# EAGLE library part MCP41HVX1_BREAKOUT_OLD (library Clock components)
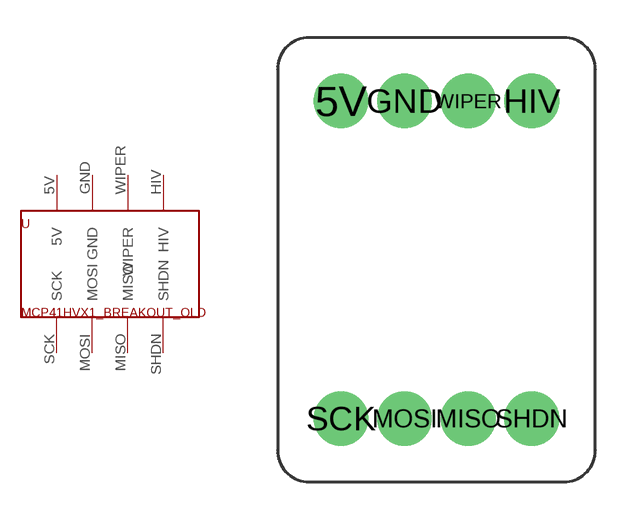
[diagram p6: symbol with the pads of MCP41HVX1_BREAKOUT_OLD; footprint MCP41HVX1_BREAKOUT_OLD]

Designator prefix -

## MCP41HVX1_BREAKOUT_OLD  [MCP41HVX1_BREAKOUT_OLD]
5V  5V
GND  GND
HIV  HIV
MISO  MISO
MOSI  MOSI
SCK  SCK
SHDN  SHDN
WIPER  WIPER

## Footprint MCP41HVX1_BREAKOUT_OLD (pad centres in mm)
drill 1 pad 2.184: 5V 2.54,15.24; GND 5.08,15.24; HIV 10.16,15.24; MISO 7.62,2.54; MOSI 5.08,2.54; SCK 2.54,2.54; SHDN 10.16,2.54; WIPER 7.62,15.24